# Altium footprint library WE-TORPFC.PcbLib: 8 footprints
Each footprint in its own frame and in the unit in brackets; x right, y up, seen from the top. Pads: shape width x height; smd on the part's side, far side on the other; paste and mask are expansions set on the pad; w line width, h text height; cw(c..) or ccw(c..) is an arc to the next point about the centre after c.
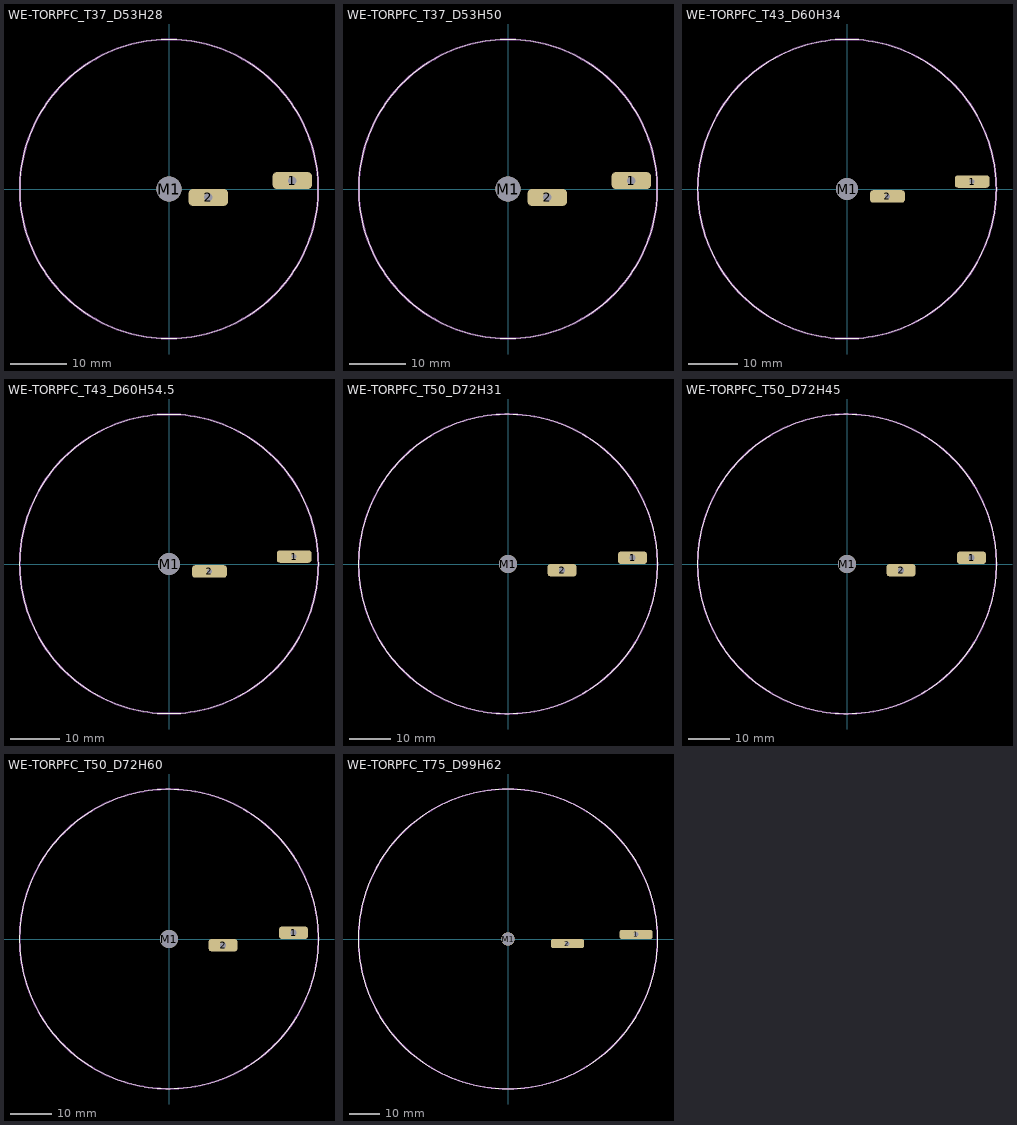
[diagram p0: the footprints below, top view; thin cyan lines are the x and y axes]

## WE-TORPFC_T37_D53H28 [mm] "Power Factor Correction Inductor, THT, OD 53mm"
height 28
pads (3):
  rrect50% 7x3 hole 1.5 square: 1(21.95,1.5) 2(7,-1.5)
  round 4.4 hole 4.4 unplated: M1(0,0)
Top Overlay:
  circle w0.2: c0,0 r26.6
Top Assembly:
  circle w0.1: c0,0 r26.5
Top Designator:
  text ".Designator" at -3.647,-0.357 h1
Top 3D Body:
  circle w0.1: c0,0 r26.5
Top Courtyard:
  circle w0.05: c0,0 r26.7
Top Component Center:
  lines w0.1: -0.5,0 0.5,0 ; 0,-0.5 0,0.5
3D body "760801401 9292023.STEP": height 27.69, standoff -7.01, extent -24.137,-24.138 26.96,24.038

## WE-TORPFC_T37_D53H50 [mm] "Power Factor Correction Inductor, THT, OD 53mm"
height 50
pads (3):
  rrect50% 7x3 hole 1.5 square: 1(21.95,1.5) 2(7,-1.5)
  round 4.4 hole 4.4 unplated: M1(0,0)
Top Overlay:
  circle w0.2: c0,0 r26.6
Top Assembly:
  circle w0.2: c0,0 r26.5
Top Designator:
  text ".Designator" at -3.647,-0.357 h1
Top 3D Body:
  circle w0.2: c0,0 r26.5
Top Courtyard:
  circle w0.05: c0,0 r26.7
Top Component Center:
  lines w0.1: -0.5,0 0.5,0 ; 0,-0.5 0,0.5
3D body "Download_STP_WE-TORPFC-760800403 (rev1).STEP": height 50.69, standoff -9.01, extent -24.1,-23.988 26.99,24.188

## WE-TORPFC_T43_D60H34 [mm] "Power Factor Correction Inductor, THT, OD 58mm"
height 34
pads (3):
  rrect50% 7x2.5 hole 1 square: 1(25.2,1.5) 2(8.15,-1.5)
  round 4.4 hole 4.4 unplated: M1(0,0)
Top Overlay:
  circle w0.2: c0,0 r30.1
Top Assembly:
  circle w0.1: c0,0 r30
Top Designator:
  text ".Designator" at -3.647,-0.357 h1
Top 3D Body:
  circle w0.1: c0,0 r30
Top Courtyard:
  circle w0.05: c0,0 r30.2
Top Component Center:
  lines w0.1: -0.5,0 0.5,0 ; 0,-0.5 0,0.5
3D body "Download_STP_WE-TORPFC-760800101 (rev1).STEP": height 33.61, standoff -11.29, extent -27.252,-27.172 29.432,27.225

## WE-TORPFC_T43_D60H54.5 [mm] "Power Factor Correction Inductor, THT, OD 60mm"
height 54.5
pads (3):
  rrect50% 7x2.5 hole 1 square: 1(25.2,1.5) 2(8.15,-1.5)
  round 4.4 hole 4.4 unplated: M1(0,0)
Top Overlay:
  circle w0.2: c0,0 r30.1
Top Assembly:
  circle w0.1: c0,0 r30
Top Designator:
  text ".Designator" at -3.647,-0.357 h1
Top 3D Body:
  circle w0.1: c0,0 r30
Top Courtyard:
  circle w0.05: c0,0 r30.2
Top Component Center:
  lines w0.1: -0.5,0 0.5,0 ; 0,-0.5 0,0.5
3D body "760800102.STEP": height 50.61, standoff -9.29, extent -27.282,-27.202 29.402,27.195

## WE-TORPFC_T50_D72H31 [mm] "Power Factor Correction Inductor, THT, OD 72mm"
height 31
pads (3):
  rrect50% 7x3 hole 1.5 square: 1(30.05,1.5) 2(13.05,-1.5)
  round 4.4 hole 4.4 unplated: M1(0,0)
Top Overlay:
  circle w0.2: c0,0 r36.1
Top Assembly:
  circle w0.1: c0,0 r36
Top Designator:
  text ".Designator" at -3.647,-0.357 h1
Top 3D Body:
  circle w0.1: c0,0 r36
Top Courtyard:
  circle w0.05: c0,0 r36.2
Top Component Center:
  lines w0.1: -0.5,0 0.5,0 ; 0,-0.5 0,0.5
3D body "760800201.STEP": height 30.5, standoff -9.4, extent -31.917,-31.742 34.428,31.95

## WE-TORPFC_T50_D72H45 [mm] "Power Factor Correction Inductor, THT, OD 72mm"
height 45
pads (3):
  rrect50% 7x3 hole 1.5 square: 1(30.05,1.5) 2(13.05,-1.5)
  round 4.4 hole 4.4 unplated: M1(0,0)
Top Overlay:
  circle w0.2: c0,0 r36.1
Top Assembly:
  circle w0.1: c0,0 r36
Top Designator:
  text ".Designator" at -3.647,-0.357 h1
Top 3D Body:
  circle w0.1: c0,0 r36
Top Courtyard:
  circle w0.05: c0,0 r36.2
Top Component Center:
  lines w0.1: -0.5,0 0.5,0 ; 0,-0.5 0,0.5
3D body "760800202.STEP": height 45.3, standoff -9.6, extent -31.917,-31.892 34.432,31.8

## WE-TORPFC_T50_D72H60 [mm] "Power Factor Correction Inductor, THT, OD 72mm"
height 60
pads (3):
  rrect50% 7x3 hole 1.5 square: 1(30.05,1.5) 2(13.05,-1.5)
  round 4.4 hole 4.4 unplated: M1(0,0)
Top Overlay:
  circle w0.2: c0,0 r36.1
Top Assembly:
  circle w0.1: c0,0 r36
Top Designator:
  text ".Designator" at -3.647,-0.357 h1
Top 3D Body:
  circle w0.1: c0,0 r36
Top Courtyard:
  circle w0.05: c0,0 r36.2
Top Component Center:
  lines w0.1: -0.5,0 0.5,0 ; 0,-0.5 0,0.5
3D body "760800203.STEP": height 60.3, standoff -10.6, extent -31.867,-31.892 34.474,31.8

## WE-TORPFC_T75_D99H62 [mm] "Power Factor Correction Inductor, THT, OD 99mm"
height 62
pads (3):
  rrect50% 11x3 hole 1.5 square: 1(42.45,1.5) 2(19.7,-1.5)
  round 4.4 hole 4.4 unplated: M1(0,0)
Top Overlay:
  circle w0.2: c0,0 r49.6
Top Assembly:
  circle w0.1: c0,0 r49.5
Top Designator:
  text ".Designator" at -3.647,-0.357 h1
Top 3D Body:
  circle w0.1: c0,0 r49.5
Top Courtyard:
  circle w0.05: c0,0 r49.7
Top Component Center:
  lines w0.1: -0.5,0 0.5,0 ; 0,-0.5 0,0.5
3D body "Download_STP_WE-TORPFC-760800301 (rev1).STEP": height 59.86, standoff -11.34, extent -46.83,-46.796 49.52,46.859